# Altium footprint library LIS302DL.PcbLib: 1 footprints
Each footprint in its own frame and in the unit in brackets; x right, y up, seen from the top. Pads: shape width x height; smd on the part's side, far side on the other; paste and mask are expansions set on the pad; w line width, h text height; cw(c..) or ccw(c..) is an arc to the next point about the centre after c.
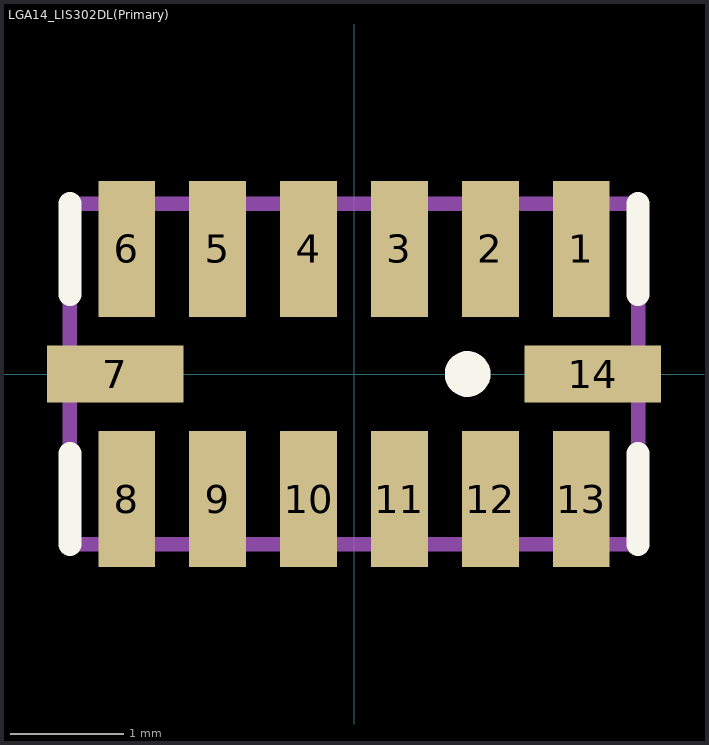
[diagram p0: the footprint, top view; thin cyan lines are the x and y axes]

## LGA14_LIS302DL(Primary) [mm]
pads (14):
  rect 0.5x1.2 smd paste-25.4 mask-25.4: 1(2,1.1) 2(1.2,1.1) 3(0.4,1.1) 4(-0.4,1.1) 5(-1.2,1.1) 6(-2,1.1) 8(-2,-1.1) 9(-1.2,-1.1) 10(-0.4,-1.1) 11(0.4,-1.1) 12(1.2,-1.1) 13(2,-1.1)
  rect 1.2x0.5 smd paste-25.4 mask-25.4: 7(-2.1,0) 14(2.1,0)
Top Overlay:
  circle w0.203: c1,0 r0.1
  lines w0.203: -2.5,-1.5 -2.5,-0.7 ; -2.5,0.7 -2.5,1.5 ; 2.5,-1.5 2.5,-0.7 ; 2.5,0.7 2.5,1.5
Top Paste:
  region: -2.7,0.25 -2.7,-0.25 -1.5,-0.25 -1.5,0.25
  region: -1.75,-0.5 -2.25,-0.5 -2.25,-1.7 -1.75,-1.7
  region: -0.95,-0.5 -1.45,-0.5 -1.45,-1.7 -0.95,-1.7
  region: -0.65,-1.7 -0.15,-1.7 -0.15,-0.5 -0.65,-0.5
  region: 0.15,-1.7 0.65,-1.7 0.65,-0.5 0.15,-0.5
  region: 0.95,-1.7 1.45,-1.7 1.45,-0.5 0.95,-0.5
  region: 1.75,-1.7 2.25,-1.7 2.25,-0.5 1.75,-0.5
  region: 2.7,-0.25 2.7,0.25 1.5,0.25 1.5,-0.25
  region: 1.75,0.5 2.25,0.5 2.25,1.7 1.75,1.7
  region: 1.45,1.7 0.95,1.7 0.95,0.5 1.45,0.5
  region: 0.65,1.7 0.15,1.7 0.15,0.5 0.65,0.5
  region: -0.15,1.7 -0.65,1.7 -0.65,0.5 -0.15,0.5
  region: -0.95,1.7 -1.45,1.7 -1.45,0.5 -0.95,0.5
  region: -1.75,1.7 -2.25,1.7 -2.25,0.5 -1.75,0.5
Top Solder:
  region: -2.8,0.35 -2.8,-0.35 -1.4,-0.35 -1.4,0.35
  region: -1.65,-0.4 -2.35,-0.4 -2.35,-1.8 -1.65,-1.8
  region: -0.85,-0.4 -1.55,-0.4 -1.55,-1.8 -0.85,-1.8
  region: -0.75,-1.8 -0.05,-1.8 -0.05,-0.4 -0.75,-0.4
  region: 0.05,-1.8 0.75,-1.8 0.75,-0.4 0.05,-0.4
  region: 0.85,-1.8 1.55,-1.8 1.55,-0.4 0.85,-0.4
  region: 1.65,-1.8 2.35,-1.8 2.35,-0.4 1.65,-0.4
  region: 2.8,-0.35 2.8,0.35 1.4,0.35 1.4,-0.35
  region: 1.65,0.4 2.35,0.4 2.35,1.8 1.65,1.8
  region: 1.55,1.8 0.85,1.8 0.85,0.4 1.55,0.4
  region: 0.75,1.8 0.05,1.8 0.05,0.4 0.75,0.4
  region: -0.05,1.8 -0.75,1.8 -0.75,0.4 -0.05,0.4
  region: -0.85,1.8 -1.55,1.8 -1.55,0.4 -0.85,0.4
  region: -1.65,1.8 -2.35,1.8 -2.35,0.4 -1.65,0.4
Mechanical 1:
  lines w0.127: -2.5,-1.5 2.5,-1.5 2.5,1.5 -2.5,1.5 -2.5,-1.5